# Altium schematic symbol library CAP,Cer,33nF,50VDC,X7R,1206.Schlib: 1 symbol
Pins are listed as number, name and electrical type; pins without a type are passive.

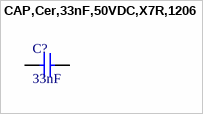
[diagram p0: symbol CAP,Cer,33nF,50VDC,X7R,1206]

## CAP,Cer,33nF,50VDC,X7R,1206
designator C?, comment 33nF
CAP CER 0.033UF 50V X7R 1206
pins: 1, 2